# Altium schematic symbol library DW01A.SchLib: 1 symbol
Pins are listed as number, name and electrical type; pins without a type are passive.

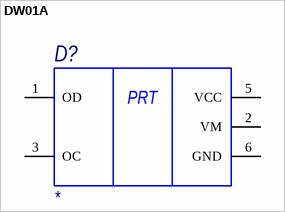
[diagram p0: symbol DW01A]

## DW01A
designator D?
Value: *
pins: 1 OD, 2 VM, 3 OC, 5 VCC, 6 GND
text: PRT